# Altium footprint library ATB322515.PcbLib: 1 footprints
Each footprint in its own frame and in the unit in brackets; x right, y up, seen from the top. Pads: shape width x height; smd on the part's side, far side on the other; paste and mask are expansions set on the pad; w line width, h text height; cw(c..) or ccw(c..) is an arc to the next point about the centre after c.
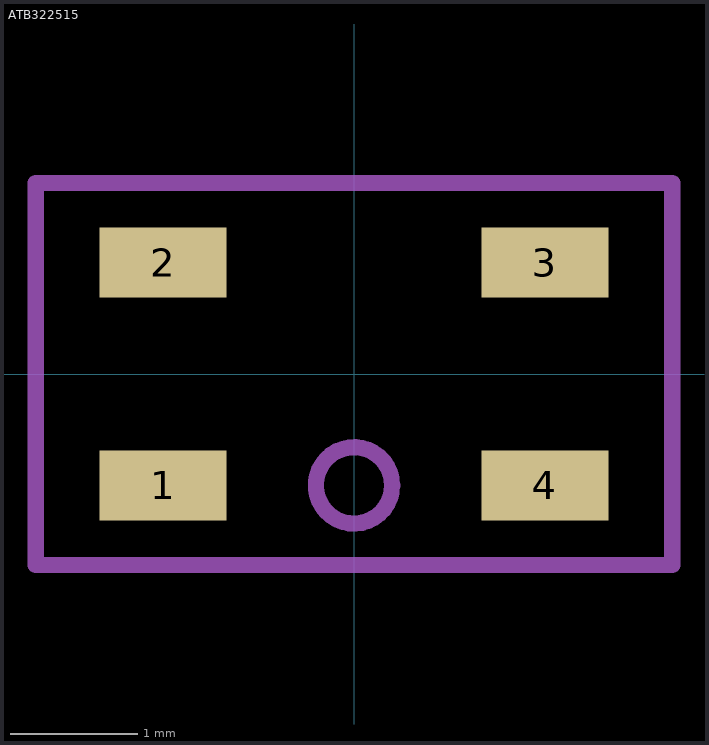
[diagram p0: the footprint, top view; thin cyan lines are the x and y axes]

## ATB322515 [mm]
pads (4):
  rect 1x0.55 smd: 1(-1.5,-0.875) 2(-1.5,0.875) 3(1.5,0.875) 4(1.5,-0.875)
Mechanical 7:
  circle w0.127: c0,-0.875 r0.3
  lines w0.127: -2.5,-1.5 -2.5,1.5 2.5,1.5 2.5,-1.5 -2.5,-1.5
3D body: height 1.2, standoff 0, extent -1.778,-1.016 1.778,1.016
3D body: height 1.21, standoff 0, extent -0.23,-0.885 0.274,-0.383